# EAGLE library part HDR-1X20 (library VCOsys)
CONN HEADER FMALE 20POS .1"
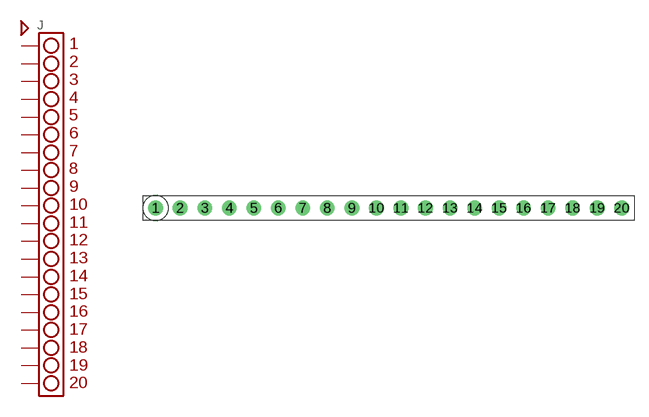
[diagram p0: symbol with the pads of HDR-1X20; footprint HDR-1X20]

Designator prefix J

## HDR-1X20HDR-CONN (DIGIKEY: S7053-ND; MFR: Sullins; MPN: PPPC201LFBN-RC)  [HDR-1X20]
1  P$1
2  P$2
3  P$3
4  P$4
5  P$5
6  P$6
7  P$7
8  P$8
9  P$9
10  P$10
11  P$11
12  P$12
13  P$13
14  P$14
15  P$15
16  P$16
17  P$17
18  P$18
19  P$19
20  P$20

## HDR-1X20HDR-STRIP-MALE (DIGIKEY: S1211EC-20-ND; MFR: Sullins; MPN: PRPC020SFAN-RC)  [HDR-1X20]
Pads as for HDR-1X20

## Footprint HDR-1X20 (pad centres in mm)
drill 1.016: 1 -24.13,0; 2 -21.59,0; 3 -19.05,0; 4 -16.51,0; 5 -13.97,0; 6 -11.43,0; 7 -8.89,0; 8 -6.35,0; 9 -3.81,0; 10 -1.27,0; 11 1.27,0; 12 3.81,0; 13 6.35,0; 14 8.89,0; 15 11.43,0; 16 13.97,0; 17 16.51,0; 18 19.05,0; 19 21.59,0; 20 24.13,0